# Altium footprint library Header.PcbLib: 112 footprints (part 2 of 7)
Each footprint in its own frame and in the unit in brackets; x right, y up, seen from the top. Pads: shape width x height; smd on the part's side, far side on the other; paste and mask are expansions set on the pad; w line width, h text height; cw(c..) or ccw(c..) is an arc to the next point about the centre after c.
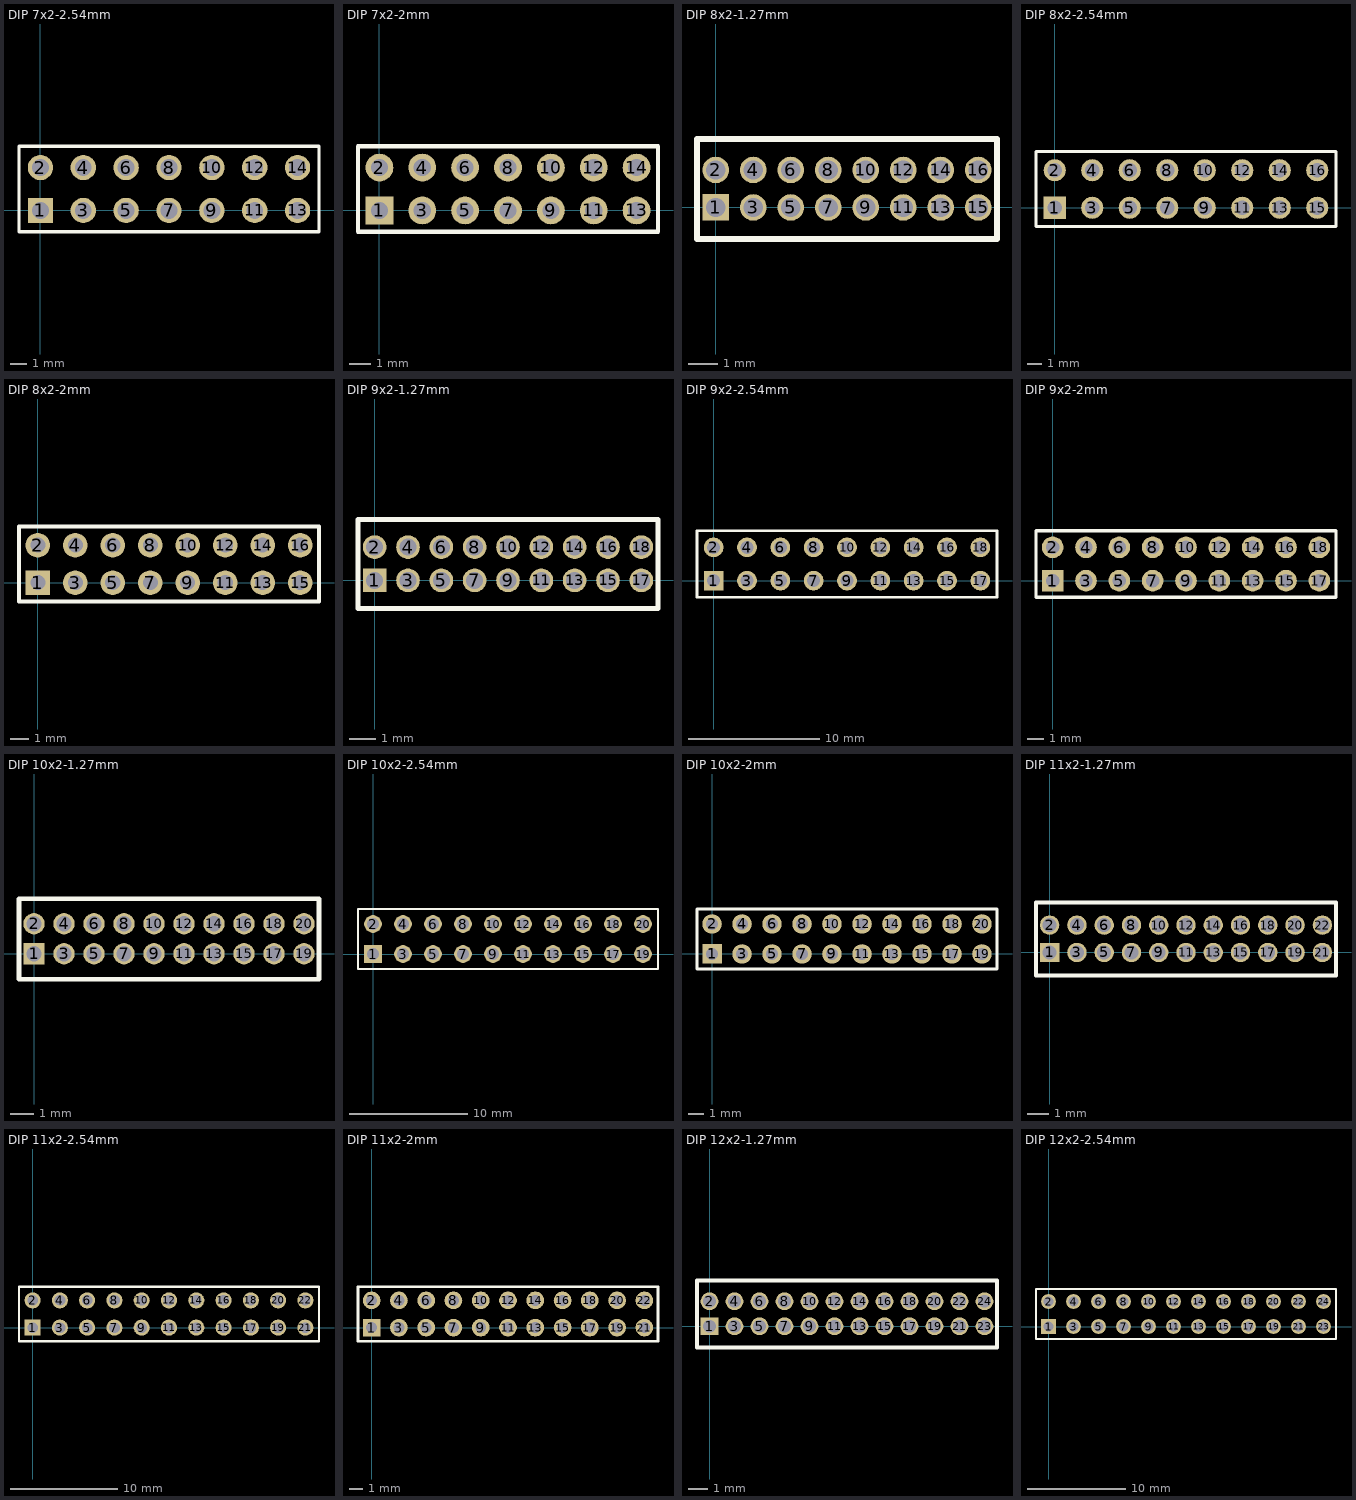
[diagram p1: the footprints below, top view; thin cyan lines are the x and y axes]

## DIP 7x2-2.54mm [mm]
pads (14):
  rect 1.5x1.5 hole 1: 1(0,0)
  round 1.5 hole 1: 2(0,2.54) 3(2.54,0) 4(2.54,2.54) 5(5.08,0) 6(5.08,2.54) 7(7.62,0) 8(7.62,2.54) 9(10.16,0) 10(10.16,2.54) 11(12.7,0) 12(12.7,2.54) 13(15.24,0) 14(15.24,2.54)
Top Overlay:
  lines w0.2: -1.27,-1.27 16.51,-1.27 16.51,3.81 -1.27,3.81 -1.27,-1.27
3D body: height 7.5, standoff 0, extent 14.915,-0.325 15.565,0.325
3D body: height 7.5, standoff 0, extent 14.915,2.215 15.565,2.865
3D body: height 7.5, standoff 0, extent 9.835,-0.325 10.485,0.325
3D body: height 7.5, standoff 0, extent 9.835,2.215 10.485,2.865
3D body: height 7.5, standoff 0, extent 12.375,2.215 13.025,2.865
3D body: height 7.5, standoff 0, extent 12.375,-0.325 13.025,0.325
3D body: height 7.5, standoff 0, extent 4.755,-0.325 5.405,0.325
3D body: height 7.5, standoff 0, extent 4.755,2.215 5.405,2.865
3D body: height 7.5, standoff 0, extent 7.295,2.215 7.945,2.865
3D body: height 7.5, standoff 0, extent 7.295,-0.325 7.945,0.325
3D body: height 7.5, standoff 0, extent 2.215,-0.325 2.865,0.325
3D body: height 7.5, standoff 0, extent 2.215,2.215 2.865,2.865
3D body: height 7.5, standoff 0, extent -0.325,2.215 0.325,2.865
3D body: height 1.5, standoff 0, extent -1.275,-1.275 16.51,3.825
3D body: height 7.5, standoff 0, extent -0.325,-0.325 0.325,0.325

## DIP 7x2-2mm [mm]
pads (14):
  rect 1.3x1.3 hole 0.8: 1(0,0)
  round 1.3 hole 0.8: 2(0,2) 3(2,0) 4(2,2) 5(4,0) 6(4,2) 7(6,0) 8(6,2) 9(8,0) 10(8,2) 11(10,0) 12(10,2) 13(12,0) 14(12,2)
Top Overlay:
  lines w0.2: -1,-1 13,-1 13,3 -1,3 -1,-1
3D body: height 5.5, standoff 0, extent 11.75,-0.25 12.25,0.25
3D body: height 5.5, standoff 0, extent 11.75,1.75 12.25,2.25
3D body: height 5.5, standoff 0, extent 9.75,-0.25 10.25,0.25
3D body: height 5.5, standoff 0, extent 9.75,1.75 10.25,2.25
3D body: height 5.5, standoff 0, extent 7.75,-0.25 8.25,0.25
3D body: height 5.5, standoff 0, extent 7.75,1.75 8.25,2.25
3D body: height 5.5, standoff 0, extent 5.75,-0.25 6.25,0.25
3D body: height 5.5, standoff 0, extent 5.75,1.75 6.25,2.25
3D body: height 5.5, standoff 0, extent 3.75,-0.25 4.25,0.25
3D body: height 5.5, standoff 0, extent 3.75,1.75 4.25,2.25
3D body: height 5.5, standoff 0, extent 1.75,-0.25 2.25,0.25
3D body: height 5.5, standoff 0, extent 1.75,1.75 2.25,2.25
3D body: height 5.5, standoff 0, extent -0.25,1.75 0.25,2.25
3D body: height 5.5, standoff 0, extent -0.25,-0.25 0.25,0.25
3D body: height 1.5, standoff 0, extent -1,-1 13,3

## DIP 8x2-1.27mm [mm]
pads (16):
  rect 0.9x0.9 hole 0.65: 1(0,0)
  round 0.9 hole 0.65: 2(0,1.27) 3(1.27,0) 4(1.27,1.27) 5(2.54,0) 6(2.54,1.27) 7(3.81,0) 8(3.81,1.27) 9(5.08,0) 10(5.08,1.27) 11(6.35,0) 12(6.35,1.27) 13(7.62,0) 14(7.62,1.27) 15(8.89,0) 16(8.89,1.27)
Top Overlay:
  lines w0.2: -0.635,-1.075 -0.635,2.325 9.525,2.325 9.525,-1.075 -0.635,-1.075
3D body: height 4, standoff 0, extent 6.15,-0.2 6.55,0.2
3D body: height 4, standoff 0, extent 6.15,1.07 6.55,1.47
3D body: height 4, standoff 0, extent 7.42,-0.2 7.82,0.2
3D body: height 4, standoff 0, extent 7.42,1.07 7.82,1.47
3D body: height 4, standoff 0, extent 8.69,-0.2 9.09,0.2
3D body: height 4, standoff 0, extent 8.69,1.07 9.09,1.47
3D body: height 4, standoff 0, extent 3.61,1.07 4.01,1.47
3D body: height 4, standoff 0, extent 3.61,-0.2 4.01,0.2
3D body: height 4, standoff 0, extent 2.34,1.07 2.74,1.47
3D body: height 4, standoff 0, extent 2.34,-0.2 2.74,0.2
3D body: height 4, standoff 0, extent 1.07,1.07 1.47,1.47
3D body: height 4, standoff 0, extent 1.07,-0.2 1.47,0.2
3D body: height 4, standoff 0, extent -0.2,-0.2 0.2,0.2
3D body: height 4, standoff 0, extent -0.2,1.07 0.2,1.47
3D body: height 1.4, standoff 0.4, extent -0.625,-1.075 9.525,2.325
3D body: height 4, standoff 0, extent 4.88,-0.2 5.28,0.2
3D body: height 4, standoff 0, extent 4.88,1.07 5.28,1.47

## DIP 8x2-2.54mm [mm]
pads (16):
  rect 1.5x1.5 hole 1: 1(0,0)
  round 1.5 hole 1: 2(0,2.54) 3(2.54,0) 4(2.54,2.54) 5(5.08,0) 6(5.08,2.54) 7(7.62,0) 8(7.62,2.54) 9(10.16,0) 10(10.16,2.54) 11(12.7,0) 12(12.7,2.54) 13(15.24,0) 14(15.24,2.54) 15(17.78,0) 16(17.78,2.54)
Top Overlay:
  lines w0.2: -1.27,-1.27 -1.27,3.81 19.05,3.81 19.05,-1.27 -1.27,-1.27
3D body: height 7.5, standoff 0, extent -0.325,-0.325 0.325,0.325
3D body: height 1.5, standoff 0, extent -1.275,-1.275 19.05,3.825
3D body: height 7.5, standoff 0, extent -0.325,2.215 0.325,2.865
3D body: height 7.5, standoff 0, extent 2.215,2.215 2.865,2.865
3D body: height 7.5, standoff 0, extent 2.215,-0.325 2.865,0.325
3D body: height 7.5, standoff 0, extent 7.295,-0.325 7.945,0.325
3D body: height 7.5, standoff 0, extent 7.295,2.215 7.945,2.865
3D body: height 7.5, standoff 0, extent 4.755,2.215 5.405,2.865
3D body: height 7.5, standoff 0, extent 4.755,-0.325 5.405,0.325
3D body: height 7.5, standoff 0, extent 12.375,-0.325 13.025,0.325
3D body: height 7.5, standoff 0, extent 12.375,2.215 13.025,2.865
3D body: height 7.5, standoff 0, extent 9.835,2.215 10.485,2.865
3D body: height 7.5, standoff 0, extent 9.835,-0.325 10.485,0.325
3D body: height 7.5, standoff 0, extent 17.455,-0.325 18.105,0.325
3D body: height 7.5, standoff 0, extent 17.455,2.215 18.105,2.865
3D body: height 7.5, standoff 0, extent 14.915,2.215 15.565,2.865
3D body: height 7.5, standoff 0, extent 14.915,-0.325 15.565,0.325

## DIP 8x2-2mm [mm]
pads (16):
  rect 1.3x1.3 hole 0.8: 1(0,0)
  round 1.3 hole 0.8: 2(0,2) 3(2,0) 4(2,2) 5(4,0) 6(4,2) 7(6,0) 8(6,2) 9(8,0) 10(8,2) 11(10,0) 12(10,2) 13(12,0) 14(12,2) 15(14,0) 16(14,2)
Top Overlay:
  lines w0.2: -1,-1 15,-1 15,3 -1,3 -1,-1
3D body: height 5.5, standoff 0, extent 13.75,-0.25 14.25,0.25
3D body: height 5.5, standoff 0, extent 13.75,1.75 14.25,2.25
3D body: height 5.5, standoff 0, extent 11.75,-0.25 12.25,0.25
3D body: height 5.5, standoff 0, extent 11.75,1.75 12.25,2.25
3D body: height 5.5, standoff 0, extent 9.75,-0.25 10.25,0.25
3D body: height 5.5, standoff 0, extent 9.75,1.75 10.25,2.25
3D body: height 5.5, standoff 0, extent 7.75,-0.25 8.25,0.25
3D body: height 5.5, standoff 0, extent 7.75,1.75 8.25,2.25
3D body: height 5.5, standoff 0, extent 5.75,-0.25 6.25,0.25
3D body: height 5.5, standoff 0, extent 5.75,1.75 6.25,2.25
3D body: height 5.5, standoff 0, extent 3.75,-0.25 4.25,0.25
3D body: height 5.5, standoff 0, extent 3.75,1.75 4.25,2.25
3D body: height 5.5, standoff 0, extent 1.75,-0.25 2.25,0.25
3D body: height 5.5, standoff 0, extent 1.75,1.75 2.25,2.25
3D body: height 5.5, standoff 0, extent -0.25,1.75 0.25,2.25
3D body: height 5.5, standoff 0, extent -0.25,-0.25 0.25,0.25
3D body: height 1.5, standoff 0, extent -1,-1 15,3

## DIP 9x2-1.27mm [mm]
pads (18):
  rect 0.9x0.9 hole 0.65: 1(0,0)
  round 0.9 hole 0.65: 2(0,1.27) 3(1.27,0) 4(1.27,1.27) 5(2.54,0) 6(2.54,1.27) 7(3.81,0) 8(3.81,1.27) 9(5.08,0) 10(5.08,1.27) 11(6.35,0) 12(6.35,1.27) 13(7.62,0) 14(7.62,1.27) 15(8.89,0) 16(8.89,1.27) 17(10.16,0) 18(10.16,1.27)
Top Overlay:
  lines w0.2: -0.635,-1.075 10.795,-1.075 10.795,2.325 -0.635,2.325 -0.635,-1.075
3D body: height 4, standoff 0, extent 4.88,1.07 5.28,1.47
3D body: height 4, standoff 0, extent 4.88,-0.2 5.28,0.2
3D body: height 1.4, standoff 0.4, extent -0.625,-1.075 10.795,2.325
3D body: height 4, standoff 0, extent -0.2,1.07 0.2,1.47
3D body: height 4, standoff 0, extent -0.2,-0.2 0.2,0.2
3D body: height 4, standoff 0, extent 1.07,-0.2 1.47,0.2
3D body: height 4, standoff 0, extent 1.07,1.07 1.47,1.47
3D body: height 4, standoff 0, extent 2.34,-0.2 2.74,0.2
3D body: height 4, standoff 0, extent 2.34,1.07 2.74,1.47
3D body: height 4, standoff 0, extent 3.61,-0.2 4.01,0.2
3D body: height 4, standoff 0, extent 3.61,1.07 4.01,1.47
3D body: height 4, standoff 0, extent 8.69,1.07 9.09,1.47
3D body: height 4, standoff 0, extent 8.69,-0.2 9.09,0.2
3D body: height 4, standoff 0, extent 7.42,1.07 7.82,1.47
3D body: height 4, standoff 0, extent 7.42,-0.2 7.82,0.2
3D body: height 4, standoff 0, extent 6.15,1.07 6.55,1.47
3D body: height 4, standoff 0, extent 6.15,-0.2 6.55,0.2
3D body: height 4, standoff 0, extent 9.96,-0.2 10.36,0.2
3D body: height 4, standoff 0, extent 9.96,1.07 10.36,1.47

## DIP 9x2-2.54mm [mm]
pads (18):
  rect 1.5x1.5 hole 1: 1(0,0)
  round 1.5 hole 1: 2(0,2.54) 3(2.54,0) 4(2.54,2.54) 5(5.08,0) 6(5.08,2.54) 7(7.62,0) 8(7.62,2.54) 9(10.16,0) 10(10.16,2.54) 11(12.7,0) 12(12.7,2.54) 13(15.24,0) 14(15.24,2.54) 15(17.78,0) 16(17.78,2.54) 17(20.32,0) 18(20.32,2.54)
Top Overlay:
  lines w0.2: -1.27,-1.27 -1.27,3.81 21.59,3.81 21.59,-1.27 -1.27,-1.27
3D body: height 7.5, standoff 0, extent -0.325,-0.325 0.325,0.325
3D body: height 1.5, standoff 0, extent -1.275,-1.275 21.59,3.825
3D body: height 7.5, standoff 0, extent -0.325,2.215 0.325,2.865
3D body: height 7.5, standoff 0, extent 2.215,2.215 2.865,2.865
3D body: height 7.5, standoff 0, extent 2.215,-0.325 2.865,0.325
3D body: height 7.5, standoff 0, extent 7.295,-0.325 7.945,0.325
3D body: height 7.5, standoff 0, extent 7.295,2.215 7.945,2.865
3D body: height 7.5, standoff 0, extent 4.755,2.215 5.405,2.865
3D body: height 7.5, standoff 0, extent 4.755,-0.325 5.405,0.325
3D body: height 7.5, standoff 0, extent 12.375,-0.325 13.025,0.325
3D body: height 7.5, standoff 0, extent 12.375,2.215 13.025,2.865
3D body: height 7.5, standoff 0, extent 9.835,2.215 10.485,2.865
3D body: height 7.5, standoff 0, extent 9.835,-0.325 10.485,0.325
3D body: height 7.5, standoff 0, extent 17.455,-0.325 18.105,0.325
3D body: height 7.5, standoff 0, extent 17.455,2.215 18.105,2.865
3D body: height 7.5, standoff 0, extent 14.915,2.215 15.565,2.865
3D body: height 7.5, standoff 0, extent 14.915,-0.325 15.565,0.325
3D body: height 7.5, standoff 0, extent 19.995,2.215 20.645,2.865
3D body: height 7.5, standoff 0, extent 19.995,-0.325 20.645,0.325

## DIP 9x2-2mm [mm]
pads (18):
  rect 1.3x1.3 hole 0.8: 1(0,0)
  round 1.3 hole 0.8: 2(0,2) 3(2,0) 4(2,2) 5(4,0) 6(4,2) 7(6,0) 8(6,2) 9(8,0) 10(8,2) 11(10,0) 12(10,2) 13(12,0) 14(12,2) 15(14,0) 16(14,2) 17(16,0) 18(16,2)
Top Overlay:
  lines w0.2: -1,-1 -1,3 17,3 17,-1 -1,-1
3D body: height 1.5, standoff 0, extent -1,-1 17,3
3D body: height 5.5, standoff 0, extent -0.25,-0.25 0.25,0.25
3D body: height 5.5, standoff 0, extent -0.25,1.75 0.25,2.25
3D body: height 5.5, standoff 0, extent 1.75,1.75 2.25,2.25
3D body: height 5.5, standoff 0, extent 1.75,-0.25 2.25,0.25
3D body: height 5.5, standoff 0, extent 3.75,1.75 4.25,2.25
3D body: height 5.5, standoff 0, extent 3.75,-0.25 4.25,0.25
3D body: height 5.5, standoff 0, extent 5.75,1.75 6.25,2.25
3D body: height 5.5, standoff 0, extent 5.75,-0.25 6.25,0.25
3D body: height 5.5, standoff 0, extent 7.75,1.75 8.25,2.25
3D body: height 5.5, standoff 0, extent 7.75,-0.25 8.25,0.25
3D body: height 5.5, standoff 0, extent 9.75,1.75 10.25,2.25
3D body: height 5.5, standoff 0, extent 9.75,-0.25 10.25,0.25
3D body: height 5.5, standoff 0, extent 11.75,1.75 12.25,2.25
3D body: height 5.5, standoff 0, extent 11.75,-0.25 12.25,0.25
3D body: height 5.5, standoff 0, extent 13.75,1.75 14.25,2.25
3D body: height 5.5, standoff 0, extent 13.75,-0.25 14.25,0.25
3D body: height 5.5, standoff 0, extent 15.75,1.75 16.25,2.25
3D body: height 5.5, standoff 0, extent 15.75,-0.25 16.25,0.25

## DIP 10x2-1.27mm [mm]
pads (20):
  rect 0.9x0.9 hole 0.65: 1(0,0)
  round 0.9 hole 0.65: 2(0,1.27) 3(1.27,0) 4(1.27,1.27) 5(2.54,0) 6(2.54,1.27) 7(3.81,0) 8(3.81,1.27) 9(5.08,0) 10(5.08,1.27) 11(6.35,0) 12(6.35,1.27) 13(7.62,0) 14(7.62,1.27) 15(8.89,0) 16(8.89,1.27) 17(10.16,0) 18(10.16,1.27) 19(11.43,0) 20(11.43,1.27)
Top Overlay:
  lines w0.2: -0.635,-1.075 12.065,-1.075 12.065,2.325 -0.635,2.325 -0.635,-1.075
3D body: height 4, standoff 0, extent 4.88,1.07 5.28,1.47
3D body: height 4, standoff 0, extent 4.88,-0.2 5.28,0.2
3D body: height 1.4, standoff 0.4, extent -0.625,-1.075 12.065,2.325
3D body: height 4, standoff 0, extent -0.2,1.07 0.2,1.47
3D body: height 4, standoff 0, extent -0.2,-0.2 0.2,0.2
3D body: height 4, standoff 0, extent 1.07,-0.2 1.47,0.2
3D body: height 4, standoff 0, extent 1.07,1.07 1.47,1.47
3D body: height 4, standoff 0, extent 2.34,-0.2 2.74,0.2
3D body: height 4, standoff 0, extent 2.34,1.07 2.74,1.47
3D body: height 4, standoff 0, extent 3.61,-0.2 4.01,0.2
3D body: height 4, standoff 0, extent 3.61,1.07 4.01,1.47
3D body: height 4, standoff 0, extent 8.69,1.07 9.09,1.47
3D body: height 4, standoff 0, extent 8.69,-0.2 9.09,0.2
3D body: height 4, standoff 0, extent 7.42,1.07 7.82,1.47
3D body: height 4, standoff 0, extent 7.42,-0.2 7.82,0.2
3D body: height 4, standoff 0, extent 6.15,1.07 6.55,1.47
3D body: height 4, standoff 0, extent 6.15,-0.2 6.55,0.2
3D body: height 4, standoff 0, extent 9.96,-0.2 10.36,0.2
3D body: height 4, standoff 0, extent 9.96,1.07 10.36,1.47
3D body: height 4, standoff 0, extent 11.23,1.07 11.63,1.47
3D body: height 4, standoff 0, extent 11.23,-0.2 11.63,0.2

## DIP 10x2-2.54mm [mm]
pads (20):
  rect 1.5x1.5 hole 1: 1(0,0)
  round 1.5 hole 1: 2(0,2.54) 3(2.54,0) 4(2.54,2.54) 5(5.08,0) 6(5.08,2.54) 7(7.62,0) 8(7.62,2.54) 9(10.16,0) 10(10.16,2.54) 11(12.7,0) 12(12.7,2.54) 13(15.24,0) 14(15.24,2.54) 15(17.78,0) 16(17.78,2.54) 17(20.32,0) 18(20.32,2.54) 19(22.86,0) 20(22.86,2.54)
Top Overlay:
  lines w0.2: -1.27,-1.27 24.13,-1.27 24.13,3.81 -1.27,3.81 -1.27,-1.27
3D body: height 7.5, standoff 0, extent 19.995,-0.325 20.645,0.325
3D body: height 7.5, standoff 0, extent 19.995,2.215 20.645,2.865
3D body: height 7.5, standoff 0, extent 22.535,2.215 23.185,2.865
3D body: height 7.5, standoff 0, extent 22.535,-0.325 23.185,0.325
3D body: height 7.5, standoff 0, extent 14.915,-0.325 15.565,0.325
3D body: height 7.5, standoff 0, extent 14.915,2.215 15.565,2.865
3D body: height 7.5, standoff 0, extent 17.455,2.215 18.105,2.865
3D body: height 7.5, standoff 0, extent 17.455,-0.325 18.105,0.325
3D body: height 7.5, standoff 0, extent 9.835,-0.325 10.485,0.325
3D body: height 7.5, standoff 0, extent 9.835,2.215 10.485,2.865
3D body: height 7.5, standoff 0, extent 12.375,2.215 13.025,2.865
3D body: height 7.5, standoff 0, extent 12.375,-0.325 13.025,0.325
3D body: height 7.5, standoff 0, extent 4.755,-0.325 5.405,0.325
3D body: height 7.5, standoff 0, extent 4.755,2.215 5.405,2.865
3D body: height 7.5, standoff 0, extent 7.295,2.215 7.945,2.865
3D body: height 7.5, standoff 0, extent 7.295,-0.325 7.945,0.325
3D body: height 7.5, standoff 0, extent 2.215,-0.325 2.865,0.325
3D body: height 7.5, standoff 0, extent 2.215,2.215 2.865,2.865
3D body: height 7.5, standoff 0, extent -0.325,2.215 0.325,2.865
3D body: height 1.5, standoff 0, extent -1.275,-1.275 24.13,3.825
3D body: height 7.5, standoff 0, extent -0.325,-0.325 0.325,0.325

## DIP 10x2-2mm [mm]
pads (20):
  rect 1.3x1.3 hole 0.8: 1(0,0)
  round 1.3 hole 0.8: 2(0,2) 3(2,0) 4(2,2) 5(4,0) 6(4,2) 7(6,0) 8(6,2) 9(8,0) 10(8,2) 11(10,0) 12(10,2) 13(12,0) 14(12,2) 15(14,0) 16(14,2) 17(16,0) 18(16,2) 19(18,0) 20(18,2)
Top Overlay:
  lines w0.2: -1,-1 19,-1 19,3 -1,3 -1,-1
3D body: height 5.5, standoff 0, extent 17.75,-0.25 18.25,0.25
3D body: height 5.5, standoff 0, extent 17.75,1.75 18.25,2.25
3D body: height 5.5, standoff 0, extent 15.75,-0.25 16.25,0.25
3D body: height 5.5, standoff 0, extent 15.75,1.75 16.25,2.25
3D body: height 5.5, standoff 0, extent 13.75,-0.25 14.25,0.25
3D body: height 5.5, standoff 0, extent 13.75,1.75 14.25,2.25
3D body: height 5.5, standoff 0, extent 11.75,-0.25 12.25,0.25
3D body: height 5.5, standoff 0, extent 11.75,1.75 12.25,2.25
3D body: height 5.5, standoff 0, extent 9.75,-0.25 10.25,0.25
3D body: height 5.5, standoff 0, extent 9.75,1.75 10.25,2.25
3D body: height 5.5, standoff 0, extent 7.75,-0.25 8.25,0.25
3D body: height 5.5, standoff 0, extent 7.75,1.75 8.25,2.25
3D body: height 5.5, standoff 0, extent 5.75,-0.25 6.25,0.25
3D body: height 5.5, standoff 0, extent 5.75,1.75 6.25,2.25
3D body: height 5.5, standoff 0, extent 3.75,-0.25 4.25,0.25
3D body: height 5.5, standoff 0, extent 3.75,1.75 4.25,2.25
3D body: height 5.5, standoff 0, extent 1.75,-0.25 2.25,0.25
3D body: height 5.5, standoff 0, extent 1.75,1.75 2.25,2.25
3D body: height 5.5, standoff 0, extent -0.25,1.75 0.25,2.25
3D body: height 5.5, standoff 0, extent -0.25,-0.25 0.25,0.25
3D body: height 1.5, standoff 0, extent -1,-1 19,3

## DIP 11x2-1.27mm [mm]
pads (22):
  rect 0.9x0.9 hole 0.65: 1(0,0)
  round 0.9 hole 0.65: 2(0,1.27) 3(1.27,0) 4(1.27,1.27) 5(2.54,0) 6(2.54,1.27) 7(3.81,0) 8(3.81,1.27) 9(5.08,0) 10(5.08,1.27) 11(6.35,0) 12(6.35,1.27) 13(7.62,0) 14(7.62,1.27) 15(8.89,0) 16(8.89,1.27) 17(10.16,0) 18(10.16,1.27) 19(11.43,0) 20(11.43,1.27) 21(12.7,0) 22(12.7,1.27)
Top Overlay:
  lines w0.2: -0.635,-1.075 -0.635,2.325 13.335,2.325 13.335,-1.075 -0.635,-1.075
3D body: height 4, standoff 0, extent 12.5,1.07 12.9,1.47
3D body: height 4, standoff 0, extent 12.5,-0.2 12.9,0.2
3D body: height 4, standoff 0, extent 11.23,-0.2 11.63,0.2
3D body: height 4, standoff 0, extent 11.23,1.07 11.63,1.47
3D body: height 4, standoff 0, extent 9.96,1.07 10.36,1.47
3D body: height 4, standoff 0, extent 9.96,-0.2 10.36,0.2
3D body: height 4, standoff 0, extent 6.15,-0.2 6.55,0.2
3D body: height 4, standoff 0, extent 6.15,1.07 6.55,1.47
3D body: height 4, standoff 0, extent 7.42,-0.2 7.82,0.2
3D body: height 4, standoff 0, extent 7.42,1.07 7.82,1.47
3D body: height 4, standoff 0, extent 8.69,-0.2 9.09,0.2
3D body: height 4, standoff 0, extent 8.69,1.07 9.09,1.47
3D body: height 4, standoff 0, extent 3.61,1.07 4.01,1.47
3D body: height 4, standoff 0, extent 3.61,-0.2 4.01,0.2
3D body: height 4, standoff 0, extent 2.34,1.07 2.74,1.47
3D body: height 4, standoff 0, extent 2.34,-0.2 2.74,0.2
3D body: height 4, standoff 0, extent 1.07,1.07 1.47,1.47
3D body: height 4, standoff 0, extent 1.07,-0.2 1.47,0.2
3D body: height 4, standoff 0, extent -0.2,-0.2 0.2,0.2
3D body: height 4, standoff 0, extent -0.2,1.07 0.2,1.47
3D body: height 1.4, standoff 0.4, extent -0.625,-1.075 13.335,2.325
3D body: height 4, standoff 0, extent 4.88,-0.2 5.28,0.2
3D body: height 4, standoff 0, extent 4.88,1.07 5.28,1.47

## DIP 11x2-2.54mm [mm]
pads (22):
  rect 1.5x1.5 hole 1: 1(0,0)
  round 1.5 hole 1: 2(0,2.54) 3(2.54,0) 4(2.54,2.54) 5(5.08,0) 6(5.08,2.54) 7(7.62,0) 8(7.62,2.54) 9(10.16,0) 10(10.16,2.54) 11(12.7,0) 12(12.7,2.54) 13(15.24,0) 14(15.24,2.54) 15(17.78,0) 16(17.78,2.54) 17(20.32,0) 18(20.32,2.54) 19(22.86,0) 20(22.86,2.54) 21(25.4,0) 22(25.4,2.54)
Top Overlay:
  lines w0.2: -1.27,-1.27 -1.27,3.81 26.67,3.81 26.67,-1.27 -1.27,-1.27
3D body: height 7.5, standoff 0, extent -0.325,-0.325 0.325,0.325
3D body: height 1.5, standoff 0, extent -1.275,-1.275 26.67,3.825
3D body: height 7.5, standoff 0, extent -0.325,2.215 0.325,2.865
3D body: height 7.5, standoff 0, extent 2.215,2.215 2.865,2.865
3D body: height 7.5, standoff 0, extent 2.215,-0.325 2.865,0.325
3D body: height 7.5, standoff 0, extent 7.295,-0.325 7.945,0.325
3D body: height 7.5, standoff 0, extent 7.295,2.215 7.945,2.865
3D body: height 7.5, standoff 0, extent 4.755,2.215 5.405,2.865
3D body: height 7.5, standoff 0, extent 4.755,-0.325 5.405,0.325
3D body: height 7.5, standoff 0, extent 12.375,-0.325 13.025,0.325
3D body: height 7.5, standoff 0, extent 12.375,2.215 13.025,2.865
3D body: height 7.5, standoff 0, extent 9.835,2.215 10.485,2.865
3D body: height 7.5, standoff 0, extent 9.835,-0.325 10.485,0.325
3D body: height 7.5, standoff 0, extent 17.455,-0.325 18.105,0.325
3D body: height 7.5, standoff 0, extent 17.455,2.215 18.105,2.865
3D body: height 7.5, standoff 0, extent 14.915,2.215 15.565,2.865
3D body: height 7.5, standoff 0, extent 14.915,-0.325 15.565,0.325
3D body: height 7.5, standoff 0, extent 22.535,-0.325 23.185,0.325
3D body: height 7.5, standoff 0, extent 22.535,2.215 23.185,2.865
3D body: height 7.5, standoff 0, extent 19.995,2.215 20.645,2.865
3D body: height 7.5, standoff 0, extent 19.995,-0.325 20.645,0.325
3D body: height 7.5, standoff 0, extent 25.075,2.215 25.725,2.865
3D body: height 7.5, standoff 0, extent 25.075,-0.325 25.725,0.325

## DIP 11x2-2mm [mm]
pads (22):
  rect 1.3x1.3 hole 0.8: 1(0,0)
  round 1.3 hole 0.8: 2(0,2) 3(2,0) 4(2,2) 5(4,0) 6(4,2) 7(6,0) 8(6,2) 9(8,0) 10(8,2) 11(10,0) 12(10,2) 13(12,0) 14(12,2) 15(14,0) 16(14,2) 17(16,0) 18(16,2) 19(18,0) 20(18,2) 21(20,0) 22(20,2)
Top Overlay:
  lines w0.2: -1,-1 21,-1 21,3 -1,3 -1,-1
3D body: height 5.5, standoff 0, extent 17.75,-0.25 18.25,0.25
3D body: height 5.5, standoff 0, extent 17.75,1.75 18.25,2.25
3D body: height 5.5, standoff 0, extent 15.75,-0.25 16.25,0.25
3D body: height 5.5, standoff 0, extent 15.75,1.75 16.25,2.25
3D body: height 5.5, standoff 0, extent 13.75,-0.25 14.25,0.25
3D body: height 5.5, standoff 0, extent 13.75,1.75 14.25,2.25
3D body: height 5.5, standoff 0, extent 11.75,-0.25 12.25,0.25
3D body: height 5.5, standoff 0, extent 11.75,1.75 12.25,2.25
3D body: height 5.5, standoff 0, extent 9.75,-0.25 10.25,0.25
3D body: height 5.5, standoff 0, extent 9.75,1.75 10.25,2.25
3D body: height 5.5, standoff 0, extent 7.75,-0.25 8.25,0.25
3D body: height 5.5, standoff 0, extent 7.75,1.75 8.25,2.25
3D body: height 5.5, standoff 0, extent 5.75,-0.25 6.25,0.25
3D body: height 5.5, standoff 0, extent 5.75,1.75 6.25,2.25
3D body: height 5.5, standoff 0, extent 3.75,-0.25 4.25,0.25
3D body: height 5.5, standoff 0, extent 3.75,1.75 4.25,2.25
3D body: height 5.5, standoff 0, extent 1.75,-0.25 2.25,0.25
3D body: height 5.5, standoff 0, extent 1.75,1.75 2.25,2.25
3D body: height 5.5, standoff 0, extent -0.25,1.75 0.25,2.25
3D body: height 5.5, standoff 0, extent -0.25,-0.25 0.25,0.25
3D body: height 1.5, standoff 0, extent -1,-1 21,3
3D body: height 5.5, standoff 0, extent 19.75,1.75 20.25,2.25
3D body: height 5.5, standoff 0, extent 19.75,-0.25 20.25,0.25

## DIP 12x2-1.27mm [mm]
pads (24):
  rect 0.9x0.9 hole 0.65: 1(0,0)
  round 0.9 hole 0.65: 2(0,1.27) 3(1.27,0) 4(1.27,1.27) 5(2.54,0) 6(2.54,1.27) 7(3.81,0) 8(3.81,1.27) 9(5.08,0) 10(5.08,1.27) 11(6.35,0) 12(6.35,1.27) 13(7.62,0) 14(7.62,1.27) 15(8.89,0) 16(8.89,1.27) 17(10.16,0) 18(10.16,1.27) 19(11.43,0) 20(11.43,1.27) 21(12.7,0) 22(12.7,1.27) 23(13.97,0) 24(13.97,1.27)
Top Overlay:
  lines w0.2: -0.635,-1.075 14.605,-1.075 14.605,2.325 -0.635,2.325 -0.635,-1.075
3D body: height 4, standoff 0, extent 4.88,1.07 5.28,1.47
3D body: height 4, standoff 0, extent 4.88,-0.2 5.28,0.2
3D body: height 1.4, standoff 0.4, extent -0.625,-1.075 14.605,2.325
3D body: height 4, standoff 0, extent -0.2,1.07 0.2,1.47
3D body: height 4, standoff 0, extent -0.2,-0.2 0.2,0.2
3D body: height 4, standoff 0, extent 1.07,-0.2 1.47,0.2
3D body: height 4, standoff 0, extent 1.07,1.07 1.47,1.47
3D body: height 4, standoff 0, extent 2.34,-0.2 2.74,0.2
3D body: height 4, standoff 0, extent 2.34,1.07 2.74,1.47
3D body: height 4, standoff 0, extent 3.61,-0.2 4.01,0.2
3D body: height 4, standoff 0, extent 3.61,1.07 4.01,1.47
3D body: height 4, standoff 0, extent 8.69,1.07 9.09,1.47
3D body: height 4, standoff 0, extent 8.69,-0.2 9.09,0.2
3D body: height 4, standoff 0, extent 7.42,1.07 7.82,1.47
3D body: height 4, standoff 0, extent 7.42,-0.2 7.82,0.2
3D body: height 4, standoff 0, extent 6.15,1.07 6.55,1.47
3D body: height 4, standoff 0, extent 6.15,-0.2 6.55,0.2
3D body: height 4, standoff 0, extent 9.96,-0.2 10.36,0.2
3D body: height 4, standoff 0, extent 9.96,1.07 10.36,1.47
3D body: height 4, standoff 0, extent 11.23,1.07 11.63,1.47
3D body: height 4, standoff 0, extent 11.23,-0.2 11.63,0.2
3D body: height 4, standoff 0, extent 12.5,-0.2 12.9,0.2
3D body: height 4, standoff 0, extent 12.5,1.07 12.9,1.47
3D body: height 4, standoff 0, extent 13.77,-0.2 14.17,0.2
3D body: height 4, standoff 0, extent 13.77,1.07 14.17,1.47

## DIP 12x2-2.54mm [mm]
pads (24):
  rect 1.5x1.5 hole 1: 1(0,0)
  round 1.5 hole 1: 2(0,2.54) 3(2.54,0) 4(2.54,2.54) 5(5.08,0) 6(5.08,2.54) 7(7.62,0) 8(7.62,2.54) 9(10.16,0) 10(10.16,2.54) 11(12.7,0) 12(12.7,2.54) 13(15.24,0) 14(15.24,2.54) 15(17.78,0) 16(17.78,2.54) 17(20.32,0) 18(20.32,2.54) 19(22.86,0) 20(22.86,2.54) 21(25.4,0) 22(25.4,2.54) 23(27.94,0) 24(27.94,2.54)
Top Overlay:
  lines w0.2: -1.27,-1.27 -1.27,3.81 29.21,3.81 29.21,-1.27 -1.27,-1.27
3D body: height 7.5, standoff 0, extent -0.325,-0.325 0.325,0.325
3D body: height 1.5, standoff 0, extent -1.275,-1.275 29.21,3.825
3D body: height 7.5, standoff 0, extent -0.325,2.215 0.325,2.865
3D body: height 7.5, standoff 0, extent 2.215,2.215 2.865,2.865
3D body: height 7.5, standoff 0, extent 2.215,-0.325 2.865,0.325
3D body: height 7.5, standoff 0, extent 7.295,-0.325 7.945,0.325
3D body: height 7.5, standoff 0, extent 7.295,2.215 7.945,2.865
3D body: height 7.5, standoff 0, extent 4.755,2.215 5.405,2.865
3D body: height 7.5, standoff 0, extent 4.755,-0.325 5.405,0.325
3D body: height 7.5, standoff 0, extent 12.375,-0.325 13.025,0.325
3D body: height 7.5, standoff 0, extent 12.375,2.215 13.025,2.865
3D body: height 7.5, standoff 0, extent 9.835,2.215 10.485,2.865
3D body: height 7.5, standoff 0, extent 9.835,-0.325 10.485,0.325
3D body: height 7.5, standoff 0, extent 17.455,-0.325 18.105,0.325
3D body: height 7.5, standoff 0, extent 17.455,2.215 18.105,2.865
3D body: height 7.5, standoff 0, extent 14.915,2.215 15.565,2.865
3D body: height 7.5, standoff 0, extent 14.915,-0.325 15.565,0.325
3D body: height 7.5, standoff 0, extent 22.535,-0.325 23.185,0.325
3D body: height 7.5, standoff 0, extent 22.535,2.215 23.185,2.865
3D body: height 7.5, standoff 0, extent 19.995,2.215 20.645,2.865
3D body: height 7.5, standoff 0, extent 19.995,-0.325 20.645,0.325
3D body: height 7.5, standoff 0, extent 27.615,-0.325 28.265,0.325
3D body: height 7.5, standoff 0, extent 27.615,2.215 28.265,2.865
3D body: height 7.5, standoff 0, extent 25.075,2.215 25.725,2.865
3D body: height 7.5, standoff 0, extent 25.075,-0.325 25.725,0.325